# Altium footprint library HEADER-6PINF-2.54MM.PcbLib: 1 footprints
Each footprint in its own frame and in the unit in brackets; x right, y up, seen from the top. Pads: shape width x height; smd on the part's side, far side on the other; paste and mask are expansions set on the pad; w line width, h text height; cw(c..) or ccw(c..) is an arc to the next point about the centre after c.
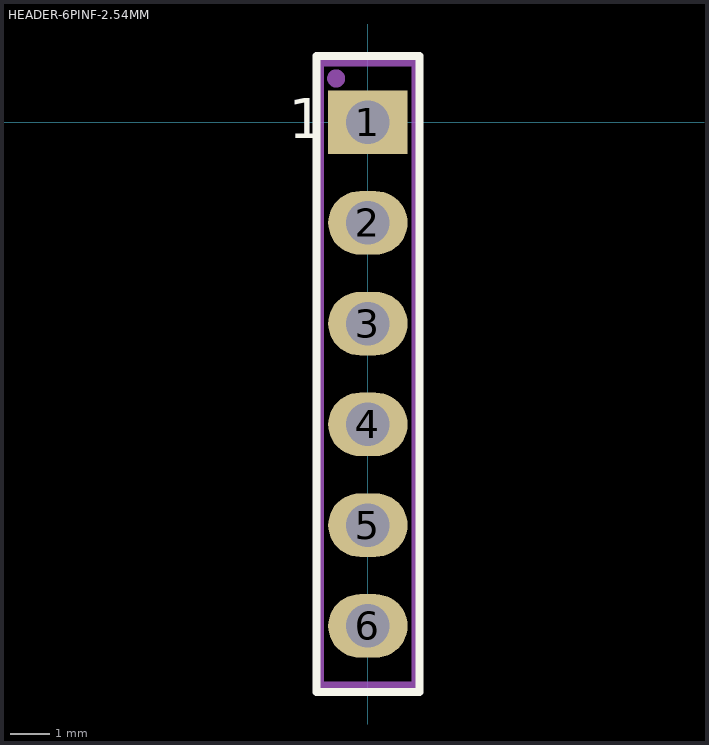
[diagram p0: the footprint, top view; thin cyan lines are the x and y axes]

## HEADER-6PINF-2.54MM [mm]
pads (6):
  rect 2x1.6 hole 1.1: 1(0,0)
  oval 2x1.6 hole 1.1: 2(0,-2.54) 3(0,-5.08) 4(0,-7.62) 5(0,-10.16) 6(0,-12.7)
Top Overlay:
  lines w0.2: -1.3,-14.37 -1.3,1.67 1.3,1.67 1.3,-14.37 -1.3,-14.37
  text "1" at -2,-0.41 h1.02
Mechanical 29:
  circle w0.254: c-0.8,1.1 r0.1
  lines w0.2: -1.2,-14.2 -1.2,1.5 1.2,1.5 1.2,-14.2 -1.2,-14.2
  text ".Designator" at 0.7,-8.7 h1.52
3D body "female_header_a-bl254-eg-g06d.stp": height 8.5, standoff -3.2, extent -1.25,-14.095 1.25,1.395